# Altium footprint library 78M05.PcbLib: 1 footprints
Each footprint in its own frame and in the unit in brackets; x right, y up, seen from the top. Pads: shape width x height; smd on the part's side, far side on the other; paste and mask are expansions set on the pad; w line width, h text height; cw(c..) or ccw(c..) is an arc to the next point about the centre after c.
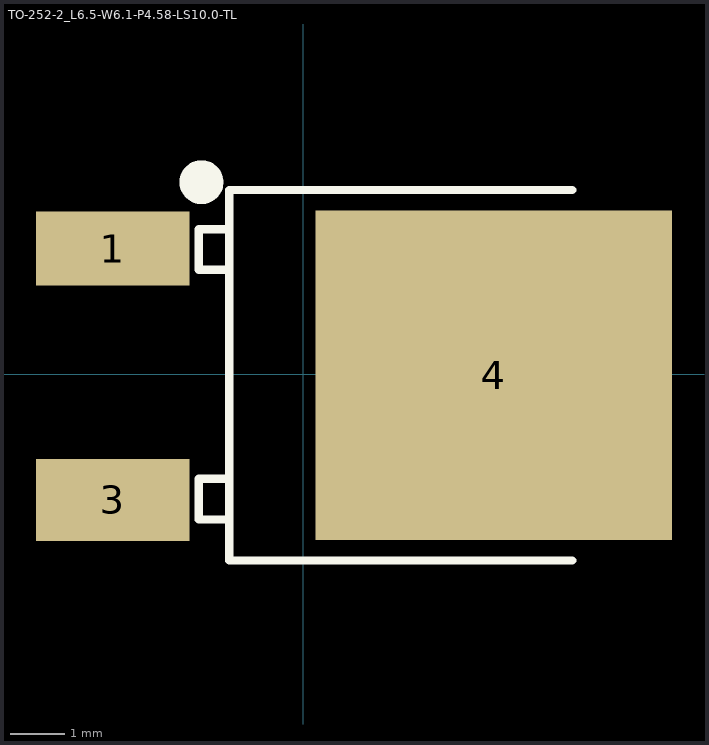
[diagram p0: the footprint, top view; thin cyan lines are the x and y axes]

## TO-252-2_L6.5-W6.1-P4.58-LS10.0-TL [mm]
pads (3):
  rect 2.8x1.35 smd paste+0 mask+0.051: 1(-3.475,2.29)
  rect 2.8x1.5 smd paste+0 mask+0.051: 3(-3.475,-2.29)
  rect 6.5x6 smd paste+0 mask+0.051: 4(3.475,-0.017)
Top Overlay:
  lines w0.152: -1.348,-2.635 -1.348,-2.645 -1.904,-2.645 -1.904,-1.903 -1.348,-1.903 ; -1.348,1.916 -1.348,1.905 -1.904,1.905 -1.904,2.647 -1.348,2.647 ; 4.903,-3.393 -1.349,-3.393 -1.349,3.359 4.903,3.359
  lines w0.4: -1.857,3.302 cw(c-1.856,3.502) -1.854,3.302
Mechanical 15:
  circle w0.5: c-4.165,2.286 r0.25
3D body "78M05C.STEP": height 2.39, standoff 0, extent -4.953,-3.25 4.953,3.25